# Altium schematic symbol library Black_Pill_STM32F401CCU6.SchLib: 1 symbol
Pins are listed as number, name and electrical type; pins without a type are passive.

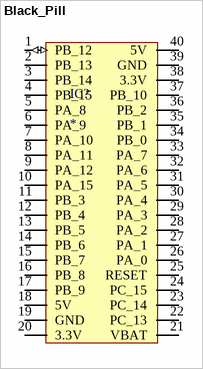
[diagram p0: symbol Black_Pill]

## Black_Pill
designator IC?
STM32F401CCU6
footprint Black_Pill_STM32F401CCU6
pins: 1 PB_12 (io), 2 PB_13, 3 PB_14, 4 PB_15, 5 PA_8, 6 PA_9, 7 PA_10, 8 PA_11, 9 PA_12, 10 PA_15, 11 PB_3, 12 PB_4, 13 PB_5, 14 PB_6, 15 PB_7, 16 PB_8, 17 PB_9, 18 5V, 19 GND, 20 3.3V, 21 VBAT, 22 PC_13, 23 PC_14, 24 PC_15, 25 RESET, 26 PA_0, 27 PA_1, 28 PA_2, 29 PA_3, 30 PA_4, 31 PA_5, 32 PA_6, 33 PA_7, 34 PB_0, 35 PB_1, 36 PB_2, 37 PB_10, 38 3.3V, 39 GND, 40 5V